# Altium schematic symbol library PADog.SchLib: 5 symbols
Pins are listed as number, name and electrical type; pins without a type are passive.

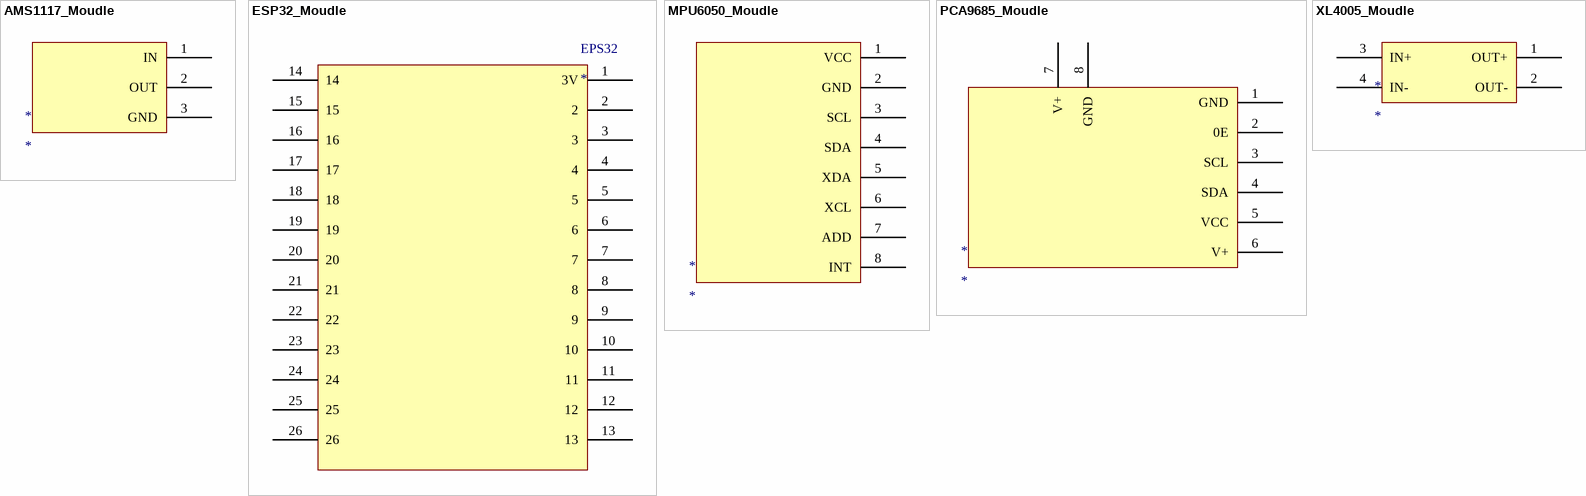
[diagram p0: symbols AMS1117_Moudle to XL4005_Moudle]

## AMS1117_Moudle
designator *
footprint ams1117
footprint ams1117
pins: 1 IN, 2 OUT, 3 GND

## ESP32_Moudle
designator EPS32
footprint ESP32
pins: 1 3V, 2, 3, 4, 5, 6, 7, 8, 9, 10, 11, 12, 13, 14, 15, 16, 17, 18, 19, 20, 21, 22, 23, 24, 25, 26

## MPU6050_Moudle
designator *
pins: 1 VCC, 2 GND, 3 SCL, 4 SDA, 5 XDA, 6 XCL, 7 ADD, 8 INT

## PCA9685_Moudle
designator *
footprint servo
pins: 1 GND, 2 0E, 3 SCL, 4 SDA, 5 VCC, 6 V+, 7 V+, 8 GND

## XL4005_Moudle
designator *
footprint 4005
pins: 1 OUT+, 2 OUT-, 3 IN+, 4 IN-